# EAGLE library part F52R-1A7H1-11006 (library SamacSys_Parts)
FFC & FPC Connectors F52R-1A7H1-11006-Slider type Source: Datasheet <https://cdn.amphenol-icc.com/media/wysiwyg/files/drawing/f52r.pdf>
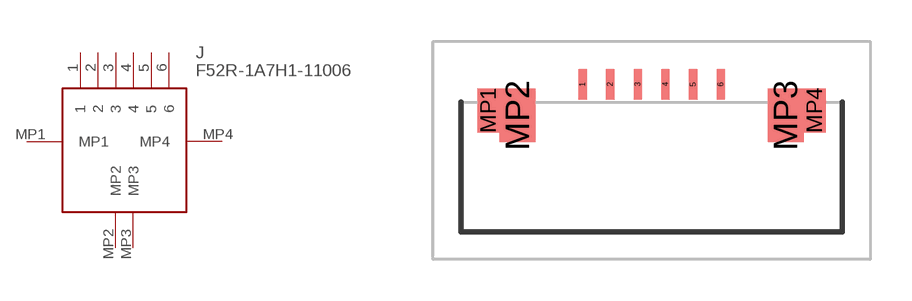
[diagram p7: symbol with the pads of F52R1A7H111006; footprint F52R1A7H111006]

Designator prefix J

## F52R-1A7H1-11006 (DESCRIPTION: FFC & FPC Connectors F52R-1A7H1-11006-Slider type; HEIGHT: 2.75mm; MANUFACTURER_NAME: Amphenol ICC / Aorora; MANUFACTURER_PART_NUMBER: F52R-1A7H1-11006; MOUSER_PART_NUMBER: 649-F52R-1A7H1-11006; MOUSER_PRICE-STOCK: https://www.mouser.co.uk/ProductDetail/Amphenol-ICC-Aorora/F52R-1A7H1-11006/?qs=xZ%2FP%252Ba9zWqa67pABGSe3sg%3D%3D)  [F52R1A7H111006]
1  1
2  2
3  3
4  4
5  5
6  6
MP1  MP1
MP2  MP2
MP3  MP3
MP4  MP4

## Footprint F52R1A7H111006 (pad centres in mm)
F52R-1A7H1-11006-2
smd 0.3 x 1.1: 1 -2.5,0; 2 -1.5,0; 3 -0.5,0; 4 0.5,0; 5 1.5,0; 6 2.5,0
smd 0.8 x 1.6: MP1 -5.9,-0.95; MP4 5.9,-0.95
smd 1.3 x 1.95: MP2 -4.85,-1.125; MP3 4.85,-1.125